# EAGLE library part XE1205 (library semtech)
UHF Transceiver 180 MHz - 1GHz Low-Power, High Link Budget
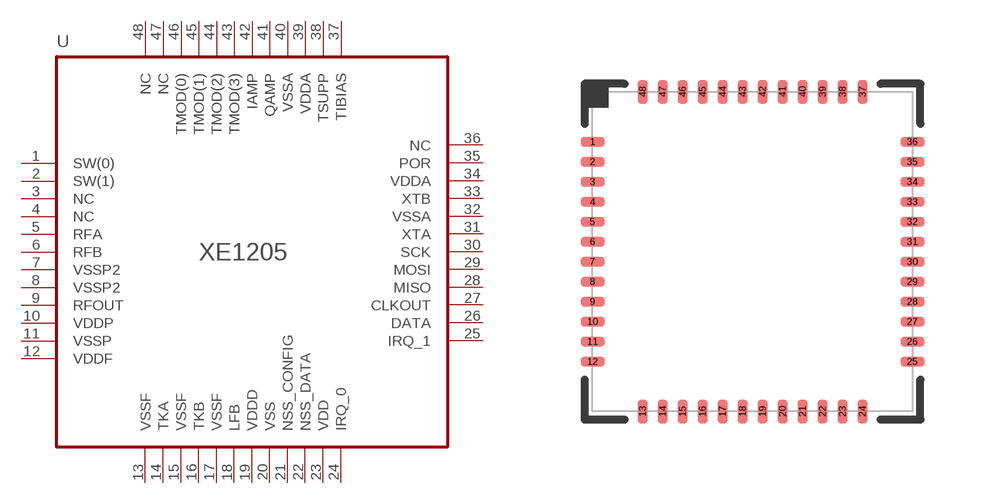
[diagram p0: symbol with the pads of VQFN48; footprint VQFN48]

Designator prefix U

## XE1205  [VQFN48]
1  SW(0)
2  SW(1)
3  NC  in
4  NC  in
5  RFA  in
6  RFB  in
7  VSSP2  pwr
8  VSSP2  pwr
9  RFOUT  out
10  VDDP  pwr
11  VSSP  pwr
12  VDDF  pwr
13  VSSF  pwr
14  TKA
15  VSSF  pwr
16  TKB
17  VSSF  pwr
18  LFB
19  VDDD  pwr
20  VSS  pwr
21  NSS_CONFIG  in
22  NSS_DATA  in
23  VDD  pwr
24  IRQ_0  out
25  IRQ_1  out
26  DATA
27  CLKOUT  out
28  MISO
29  MOSI  in
30  SCK  in
31  XTA
32  VSSA  pwr
33  XTB
34  VDDA  pwr
35  POR
36  NC
37  TIBIAS
38  TSUPP
39  VDDA  pwr
40  VSSA  pwr
41  QAMP  out
42  IAMP  out
43  TMOD(3)  in
44  TMOD(2)  in
45  TMOD(1)  in
46  TMOD(0)  in
47  NC  in
48  NC  in

## Footprint VQFN48 (pad centres in mm)
VQFN 48 body 8 X 8 mm
smd 0.6 x 0.25: 1 -4,2.75; 2 -4,2.25; 3 -4,1.75; 4 -4,1.25; 5 -4,0.75; 6 -4,0.25; 7 -4,-0.25; 8 -4,-0.75; 9 -4,-1.25; 10 -4,-1.75; 11 -4,-2.25; 12 -4,-2.75; 25 4,-2.75; 26 4,-2.25; 27 4,-1.75; 28 4,-1.25; 29 4,-0.75; 30 4,-0.25; 31 4,0.25; 32 4,0.75; 33 4,1.25; 34 4,1.75; 35 4,2.25; 36 4,2.75
smd 0.25 x 0.6: 13 -2.75,-4; 14 -2.25,-4; 15 -1.75,-4; 16 -1.25,-4; 17 -0.75,-4; 18 -0.25,-4; 19 0.25,-4; 20 0.75,-4; 21 1.25,-4; 22 1.75,-4; 23 2.25,-4; 24 2.75,-4; 37 2.75,4; 38 2.25,4; 39 1.75,4; 40 1.25,4; 41 0.75,4; 42 0.25,4; 43 -0.25,4; 44 -0.75,4; 45 -1.25,4; 46 -1.75,4; 47 -2.25,4; 48 -2.75,4